# EAGLE library part TRACO_TEN_20_2411WIN (library Robot)
TRACO POWER TEN 20-2411WIN DC/DC Converter 20W. Vin: 9-36V, Vout: 5V
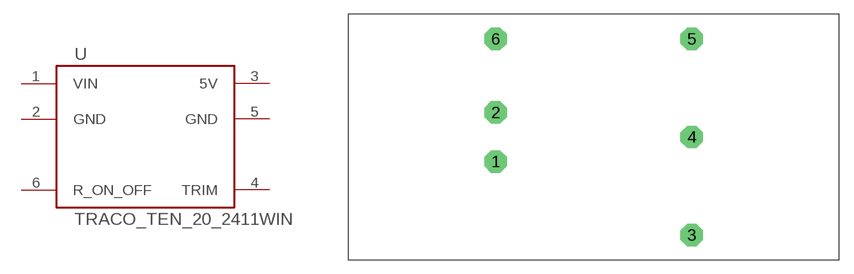
[diagram p16: symbol with the pads of TRACO_1_PER_2; footprint TRACO_1_PER_2]

Designator prefix -

## TRACO_TEN_20_2411WIN  [TRACO_1_PER_2]
1  VIN  pwr
2  GND  pwr
3  5V  pwr
4  TRIM  nc
5  GND  pwr
6  R_ON_OFF

## Footprint TRACO_1_PER_2 (pad centres in mm)
TRACO POWER This is the package used by many TRACO DC/DC converter: 6-pin and 1" x 2".
drill 1.55 octagon: 1 -10.16,-2.54; 2 -10.16,2.54; 3 10.16,-10.16; 4 10.16,0; 5 10.16,10.16; 6 -10.16,10.16